# Altium footprint library PcbLib2.PcbLib: 1 footprints
Each footprint in its own frame and in the unit in brackets; x right, y up, seen from the top. Pads: shape width x height; smd on the part's side, far side on the other; paste and mask are expansions set on the pad; w line width, h text height; cw(c..) or ccw(c..) is an arc to the next point about the centre after c.
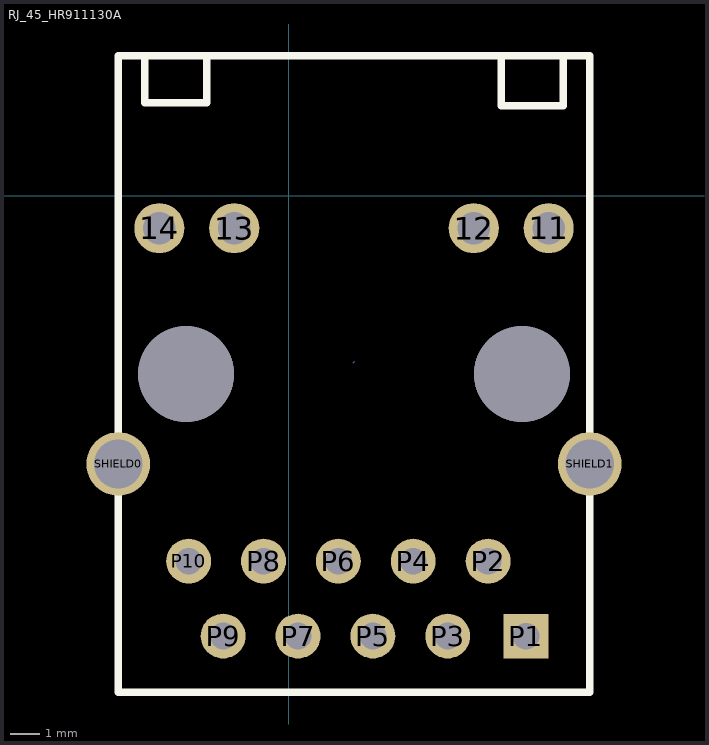
[diagram p0: the footprint, top view; thin cyan lines are the x and y axes]

## RJ_45_HR911130A [mil] "以太网网口"
height 472.44
pads (18):
  round 66.93 hole 43.31: 11(347.5,-43) 12(247.5,-43) 13(-72.5,-43) 14(-172.5,-43)
  rect 60x60 hole 35.83: P1(317.13,-588.24)
  round 60 hole 35.83: P2(266.6,-488) P3(212.7,-588) P4(166.6,-488) P5(112.7,-588) P6(66.6,-488) P7(12.7,-588) P8(-33.4,-488) P9(-87.3,-588) P10(-133.4,-488)
  round 85 hole 65: SHIELD0(-227.5,-358.1) SHIELD1(402.5,-358.1)
  round 127.95 hole 127.95 unplated: ""(-136.9,-238) ""(311.9,-238)
Top Overlay:
  lines w10: -192.03,187.2 -192.03,124.2 -109.35,124.2 -109.35,155.7 -109.35,187.2 ; 284.32,183.26 284.32,120.26 367,120.26 367,151.76 367,183.26 ; -227.5,-663 402.5,-663 402.5,187 -227.5,187 -227.5,-663
Mechanical 15:
  lines w0.1: 86.5,-222.75 88.5,-220.75